# EAGLE library part POWER-UTC-4432-T2000 (library MiiLib)
This is the 10km ttl transmitter 1,5A power is needed on 5v and 3.3v for ttl
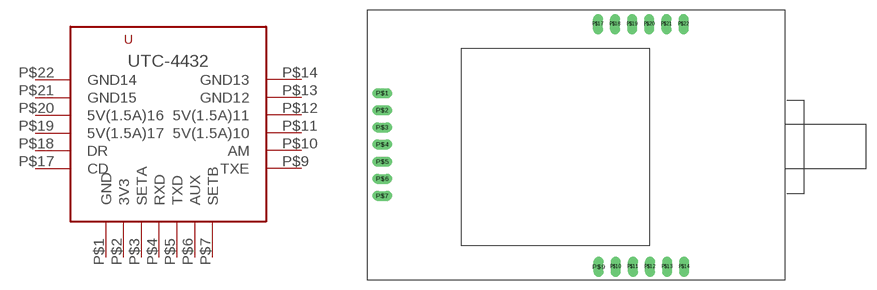
[diagram p4: symbol with the pads of POWER-UTC-4432-T2000; footprint POWER-UTC-4432-T2000]

Designator prefix -

## POWER-UTC-4432-T2000  [POWER-UTC-4432-T2000]
P$1  GND
P$2  3V3
P$3  SETA
P$4  RXD
P$5  TXD
P$6  AUX
P$7  SETB
P$9  TXE
P$10  AM
P$11  5V(1.5A)10
P$12  5V(1.5A)11
P$13  GND12
P$14  GND13
P$17  CD
P$18  DR
P$19  5V(1.5A)17
P$20  5V(1.5A)16
P$21  GND15
P$22  GND14

## Footprint POWER-UTC-4432-T2000 (pad centres in mm)
drill 1 long: P$1 2.275,27.68; P$2 2.275,25.14; P$3 2.275,22.6; P$4 2.275,20.06; P$5 2.275,17.52; P$6 2.275,14.98; P$7 2.275,12.44; P$9 34.35,1.91; P$10 36.89,1.91; P$11 39.43,1.91; P$12 41.97,1.91; P$13 44.51,1.91; P$14 47.05,1.91; P$17 34.25,37.92; P$18 36.79,37.92; P$19 39.33,37.92; P$20 41.87,37.92; P$21 44.41,37.92; P$22 46.95,37.92